# Altium footprint library lm2596.PcbLib: 1 footprints
Each footprint in its own frame and in the unit in brackets; x right, y up, seen from the top. Pads: shape width x height; smd on the part's side, far side on the other; paste and mask are expansions set on the pad; w line width, h text height; cw(c..) or ccw(c..) is an arc to the next point about the centre after c.
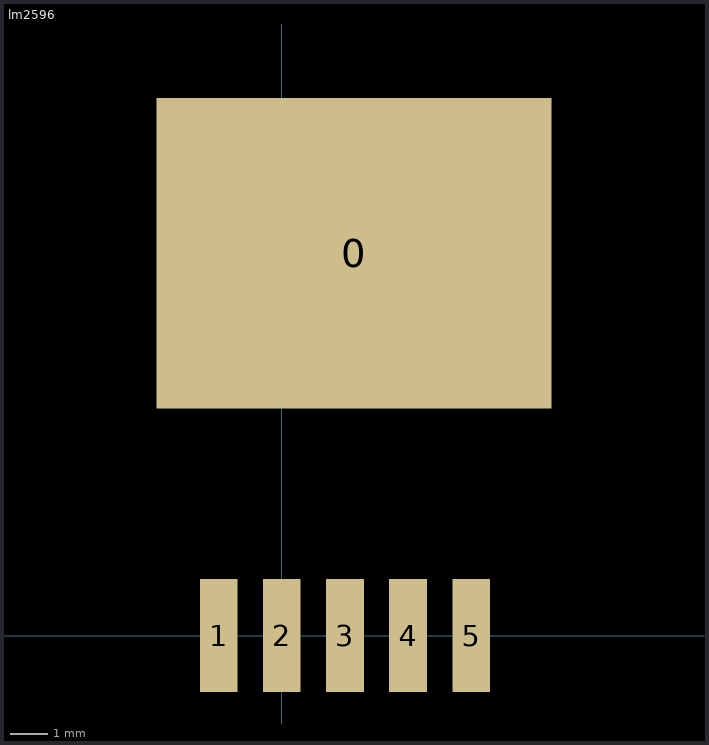
[diagram p0: the footprint, top view; thin cyan lines are the x and y axes]

## lm2596 [mm]
pads (6):
  rect 10.66x8.38 smd: 0(1.945,10.315)
  rect 1.016x3.05 smd: 1(-1.702,0) 2(0,0) 3(1.702,0) 4(3.404,0) 5(5.106,0)